# EAGLE library part FTSH-105-01-F-DV-K (library FTSH-105-01-F-DV-K)
.050 x .050 CL DOUBLE VERTICAL SMT TERMINAL STRIP Source: Datasheet <http://suddendocs.samtec.com/prints/ftsh-1xx-xx-xxx-dv-xxx-xxx-mkt.pdf>
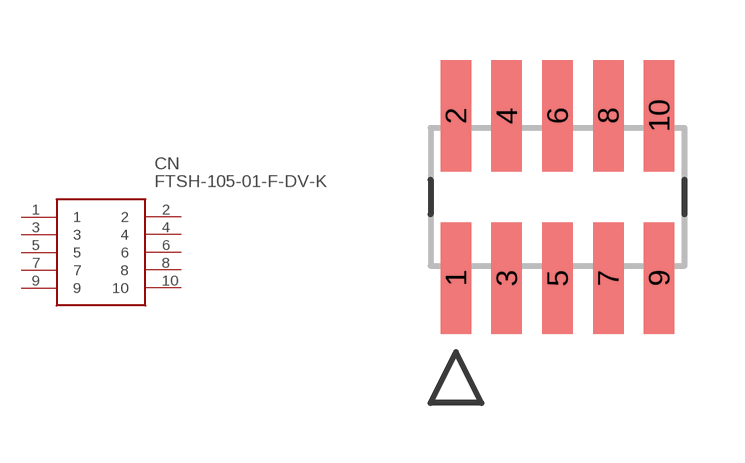
[diagram p0: symbol with the pads of SAMTEC_FTSH-105-01-L-DV; footprint SAMTEC_FTSH-105-01-L-DV]

Designator prefix CN

## FTSH-105-01-F-DV-K (DESCRIPTION: .050 x .050 CL DOUBLE VERTICAL SMT TERMINAL STRIP; HEIGHT: mm; MANUFACTURER_NAME: SAMTEC; MANUFACTURER_PART_NUMBER: FTSH-105-01-F-DV-K; SUPPLIER_NAME: RS)  [SAMTEC_FTSH-105-01-L-DV]
1  1  in
2  2  in
3  3  in
4  4  in
5  5  in
6  6  in
7  7  in
8  8  in
9  9  in
10  10  in

## Footprint SAMTEC_FTSH-105-01-L-DV (pad centres in mm)
SAMTEC_FTSH-105-01-L-DV
smd 0.762 x 2.794: 1 -2.54,-2.032; 2 -2.54,2.032; 3 -1.27,-2.032; 4 -1.27,2.032; 5 0,-2.032; 6 0,2.032; 7 1.27,-2.032; 8 1.27,2.032; 9 2.54,-2.032; 10 2.54,2.032